# Altium schematic symbol library 1101M1S3CQE2.SchLib: 1 symbol
Pins are listed as number, name and electrical type; pins without a type are passive.

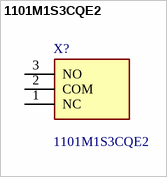
[diagram p0: symbol 1101M1S3CQE2]

## 1101M1S3CQE2
designator X?
C&K COMPONENTS - 1101M1S3CQE2 - Slide Switch, SPDT, On-On, Panel Mount, 1000 Series, 6 A, 250 V; Geometry.Height: 11.43mm; Mouser Part Number: 611-1101M1S3CQE2; Mouser Price/Stock: https://www.mouser.co.uk/ProductDetail/CK/1101M1S3CQE2?qs=lwH5WijZ8ehpWB98VN6Tsg%3D%3D; Manufacturer_Name: C & K COMPONENTS; Manufacturer_Part_Number: 1101M1S3CQE2; Datasheet Link: https://www.ckswitches.com/media/1429/1000.pdf
footprint 1101M1S3CQE2
pins: 1 NC, 2 COM, 3 NO